# EAGLE library part ES_NOISE (library Electrosmith_Boards)
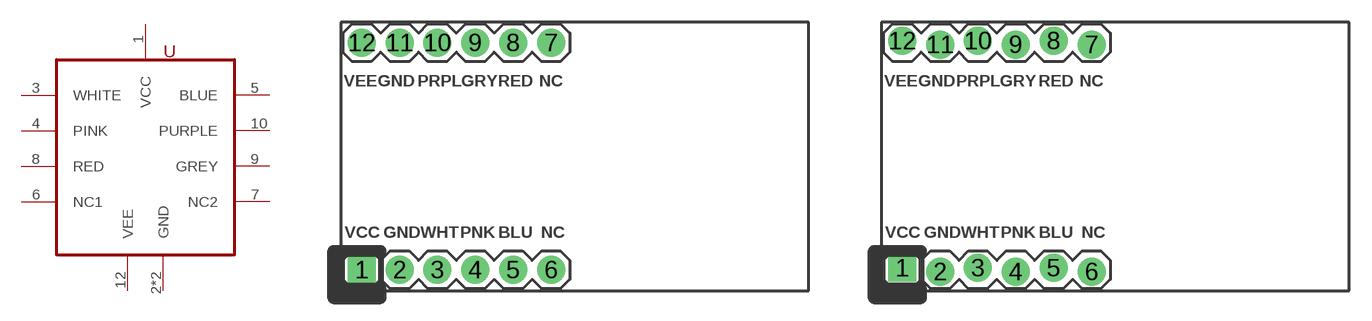
[diagram p14: symbol with the pads of ES_NOISE; footprints ES_NOISE, ES_NOISE_LOCK]

Designator prefix U

## ES_NOISE  [ES_NOISE]
1  VCC
2  GND
3  WHITE
4  PINK
5  BLUE
6  NC1
7  NC2
8  RED
9  GREY
10  PURPLE
11  GND
12  VEE

## ES_NOISE_LOCK  [ES_NOISE_LOCK]
Pads as for ES_NOISE

## Footprint ES_NOISE (pad centres in mm)
drill 1.016 pad 1.88 square: 1 1.395,1.395
drill 1.016 pad 1.88: 2 3.935,1.395; 3 6.475,1.395; 4 9.015,1.395; 5 11.555,1.395; 6 14.095,1.395; 7 14.095,16.635; 8 11.555,16.635; 9 9.015,16.635; 10 6.475,16.635; 11 3.935,16.635; 12 1.395,16.635

## Footprint ES_NOISE_LOCK (pad centres in mm)
drill 1.016 pad 1.88 square: 1 1.395,1.522
drill 1.016 pad 1.88: 2 3.935,1.268; 3 6.475,1.522; 4 9.015,1.268; 5 11.555,1.522; 6 14.095,1.268; 7 14.095,16.508; 8 11.555,16.762; 9 9.015,16.508; 10 6.475,16.762; 11 3.935,16.508; 12 1.395,16.762